# Altium footprint library DC-PJ-TH.PcbLib: 1 footprints
Each footprint in its own frame and in the unit in brackets; x right, y up, seen from the top. Pads: shape width x height; smd on the part's side, far side on the other; paste and mask are expansions set on the pad; w line width, h text height; cw(c..) or ccw(c..) is an arc to the next point about the centre after c.
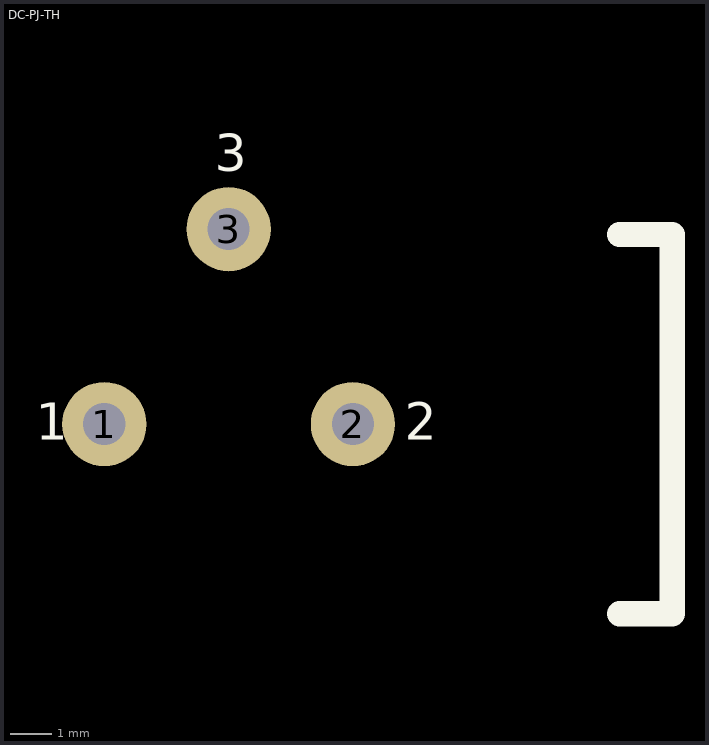
[diagram p0: the footprint, top view; thin cyan lines are the x and y axes]

## DC-PJ-TH [mil]
pads (3):
  round 80 hole 40 mask+2.76: 1(-13160,-30495) 2(-12924,-30495) 3(-13042,-30310)
Top Overlay:
  lines w24: -12671,-30675 -12621,-30675 -12621,-30315 -12671,-30315
  text "3" at -13055,-30255 h35
  text "2" at -12875,-30510 h35
  text "1" at -13225,-30510 h35